# Altium footprint library Triacs.PcbLib: 1 footprints
Each footprint in its own frame and in the unit in brackets; x right, y up, seen from the top. Pads: shape width x height; smd on the part's side, far side on the other; paste and mask are expansions set on the pad; w line width, h text height; cw(c..) or ccw(c..) is an arc to the next point about the centre after c.
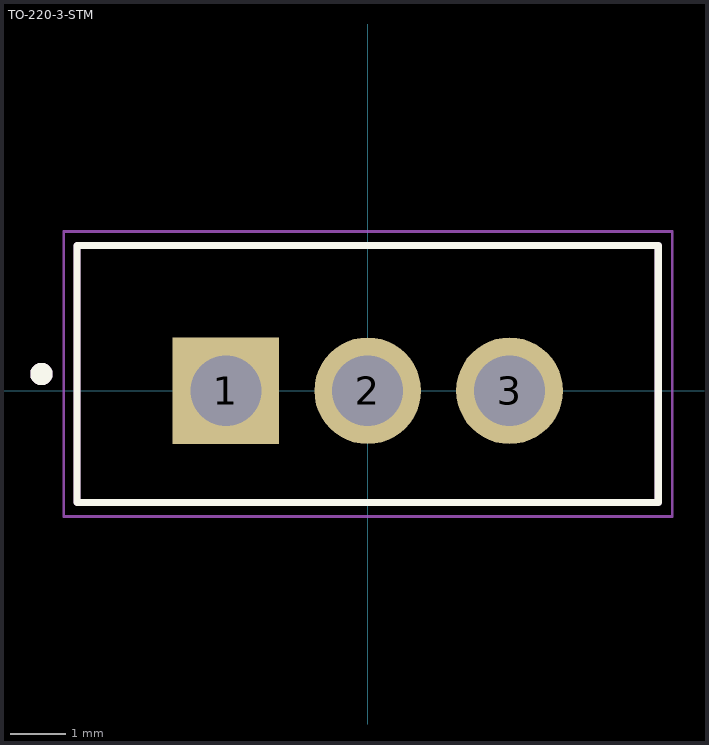
[diagram p0: the footprint, top view; thin cyan lines are the x and y axes]

## TO-220-3-STM [mm]
pads (3):
  rect 1.91x1.91 / inner round 1.91 / far side rect 1.91x1.91 hole 1.27: 1(-2.54,0)
  round 1.91 hole 1.27: 2(0,0) 3(2.54,0)
Top Overlay:
  circle w0.2: c-5.84,0.3 r0.1
  lines w0.127: -5.2,-2 -5.2,2.6 5.2,2.6 5.2,-2 -5.2,-2
Mechanical 1:
  lines w0.127: -5.2,-2 -5.2,2.6 5.2,2.6 5.2,-2 -5.2,-2
Mechanical 13:
  circle w0.2: c-5.84,0.3 r0.1
  lines w0.127: -5.2,-2 -5.2,2.6 5.2,2.6 5.2,-2 -5.2,-2
Mechanical 15:
  lines w0.05: -5.44,-2.25 -5.44,2.85 5.45,2.85 5.45,-2.25 -5.44,-2.25
Mechanical 29:
  lines w0.05: -5.44,-2.25 -5.44,2.85 5.45,2.85 5.45,-2.25 -5.44,-2.25
  text "'.Designator'" at -4.191,-0.762 h2
3D body "step_temp.STEP": height 19.65, standoff -10.25, extent -5.1,-1.96 5.1,2.54